# Altium schematic symbol library SCH - EEPROM - M93C46-MN6P.SCHLIB: 1 symbol
Pins are listed as number, name and electrical type; pins without a type are passive.

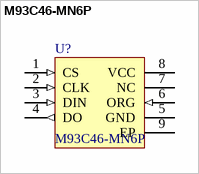
[diagram p0: symbol M93C46-MN6P]

## M93C46-MN6P
designator U?
pins: 1 CS (in), 2 CLK (in), 3 DIN (in), 4 DO (out), 5 GND (power), 6 ORG (in), 7 NC, 8 VCC (power), 9 EP (power)